# Altium schematic symbol library CHIP.SchLib: 1 symbol
Pins are listed as number, name and electrical type; pins without a type are passive.

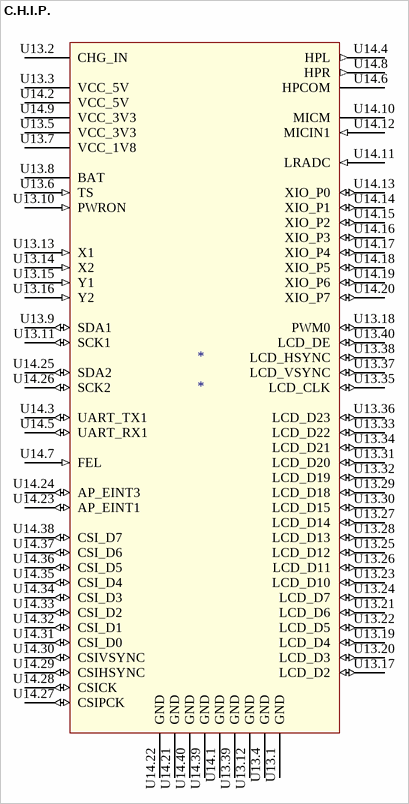
[diagram p0: symbol C.H.I.P.]

## C.H.I.P.
designator *
footprint CHIP (Thru Hole CHIP)
pins: U13.1 GND (power), U13.2 CHG_IN (power), U13.3 VCC_5V (power), U13.4 GND (power), U13.5 VCC_3V3 (power), U13.6 TS (in), U13.7 VCC_1V8 (power), U13.8 BAT (power), U13.9 SDA1 (io), U13.10 PWRON (in), U13.11 SCK1 (io), U13.12 GND (power), U13.13 X1 (in), U13.14 X2 (in), U13.15 Y1 (in), U13.16 Y2 (in), U13.17 LCD_D2 (io), U13.18 PWM0 (io), U13.19 LCD_D4 (io), U13.20 LCD_D3 (io), U13.21 LCD_D6 (io), U13.22 LCD_D5 (io), U13.23 LCD_D10 (io), U13.24 LCD_D7 (io), U13.25 LCD_D12 (io), U13.26 LCD_D11 (io), U13.27 LCD_D14 (io), U13.28 LCD_D13 (io), U13.29 LCD_D18 (io), U13.30 LCD_D15 (io), U13.31 LCD_D20 (io), U13.32 LCD_D19 (io), U13.33 LCD_D22 (io), U13.34 LCD_D21 (io), U13.35 LCD_CLK (io), U13.36 LCD_D23 (io), U13.37 LCD_VSYNC (io), U13.38 LCD_HSYNC (io), U13.39 GND (power), U13.40 LCD_DE (io), U14.1 GND (power), U14.2 VCC_5V (power), U14.3 UART_TX1 (io), U14.4 HPL (out), U14.5 UART_RX1 (io), U14.6 HPCOM (power), U14.7 FEL (in), U14.8 HPR (out), U14.9 VCC_3V3 (power), U14.10 MICM (power), U14.11 LRADC (in), U14.12 MICIN1 (in), U14.13 XIO_P0 (io), U14.14 XIO_P1 (io), U14.15 XIO_P2 (io), U14.16 XIO_P3 (io), U14.17 XIO_P4 (io), U14.18 XIO_P5 (io), U14.19 XIO_P6 (io), U14.20 XIO_P7 (io), U14.21 GND (power), U14.22 GND (power), U14.23 AP_EINT1 (io), U14.24 AP_EINT3 (io), U14.25 SDA2 (io), U14.26 SCK2 (io), U14.27 CSIPCK (io), U14.28 CSICK (io), U14.29 CSIHSYNC (io), U14.30 CSIVSYNC (io), U14.31 CSI_D0 (io), U14.32 CSI_D1 (io), U14.33 CSI_D2 (io), U14.34 CSI_D3 (io), U14.35 CSI_D4 (io), U14.36 CSI_D5 (io), U14.37 CSI_D6 (io), U14.38 CSI_D7 (io), U14.39 GND (power), U14.40 GND (power)